# Altium schematic symbol library 5-146130-7.SchLib: 4 symbols
Pins are listed as number, name and electrical type; pins without a type are passive.

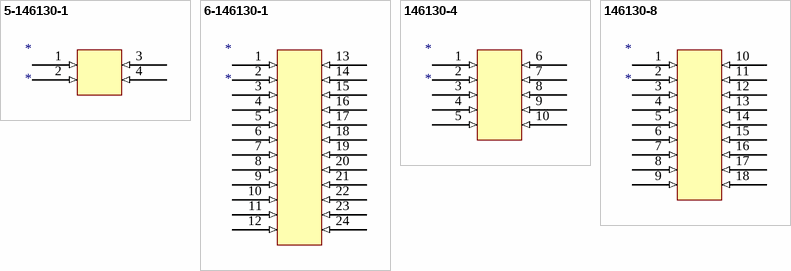
[diagram p0: symbols 5-146130-1 to 146130-8]

## 5-146130-1
designator *
2*2 Header
footprint CONN_5-146130-7_TYCO - duplicate - duplicate - duplicate - duplicate
pins: 1 (in), 2 (in), 3 (in), 4 (in)

## 6-146130-1
designator *
2*12 Header
footprint CONN_5-146130-7_TYCO - duplicate
pins: 1 (in), 2 (in), 3 (in), 4 (in), 5 (in), 6 (in), 7 (in), 8 (in), 9 (in), 10 (in), 11 (in), 12 (in), 13 (in), 14 (in), 15 (in), 16 (in), 17 (in), 18 (in), 19 (in), 20 (in), 21 (in), 22 (in), 23 (in), 24 (in)

## 146130-4
designator *
2*5 Header
footprint CONN_5-146130-7_TYCO - duplicate - duplicate - duplicate
pins: 1 (in), 2 (in), 3 (in), 4 (in), 5 (in), 6 (in), 7 (in), 8 (in), 9 (in), 10 (in)

## 146130-8
designator *
2*9 Header
footprint CONN_5-146130-7_TYCO - duplicate - duplicate
pins: 1 (in), 2 (in), 3 (in), 4 (in), 5 (in), 6 (in), 7 (in), 8 (in), 9 (in), 10 (in), 11 (in), 12 (in), 13 (in), 14 (in), 15 (in), 16 (in), 17 (in), 18 (in)